# EAGLE library part LMG5200 (library gan)
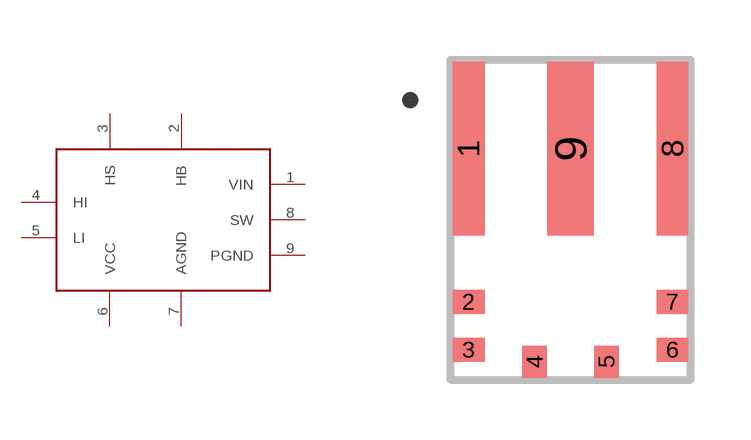
[diagram p1: symbol with the pads of LMG5200; footprint LMG5200]

Designator prefix IC

## LMG5200  [LMG5200]
1  VIN  pas
2  HB  pas
3  HS  pas
4  HI  in
5  LI  in
6  VCC  pas
7  AGND  pas
8  SW  pas
9  PGND  pas

## Footprint LMG5200 (pad centres in mm)
smd 0.8 x 4.35: 1 -2.55,1.78; 8 2.55,1.78
smd 0.8 x 0.6: 2 -2.55,-2.05; 3 -2.55,-3.25; 6 2.55,-3.25; 7 2.55,-2.05
smd 0.6 x 0.8: 4 -0.9,-3.55; 5 0.9,-3.55
smd 1.15 x 4.35: 9 0,1.78